# EAGLE library part 74LS55N (library EW_IC_74_Logic)
2-wide 4-input and-or-invert gate. Category: Gates Manufacturer: Generic
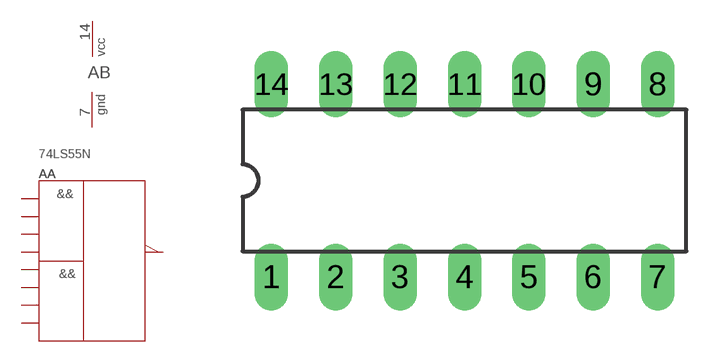
[diagram p243: symbol with the pads of DIL14; footprint DIL14]

Designator prefix A; gates A=7455_LS B=PWRN

## 74LS55N  [DIL14]
1  A:A  pwr
2  A:B  pwr
3  A:C  pwr
4  A:D  pwr
7  B:GND  pwr
8  A:Y  pwr
10  A:E  pwr
11  A:F  pwr
12  A:G  pwr
13  A:H  pwr
14  B:VCC  pwr

## Footprint DIL14 (pad centres in mm)
SOCKET Dual In Line
drill 0.813 long: 1 -7.62,-3.81; 2 -5.08,-3.81; 3 -2.54,-3.81; 4 0,-3.81; 5 2.54,-3.81; 6 5.08,-3.81; 7 7.62,-3.81; 8 7.62,3.81; 9 5.08,3.81; 10 2.54,3.81; 11 0,3.81; 12 -2.54,3.81; 13 -5.08,3.81; 14 -7.62,3.81